# Altium schematic symbol library schlib.schlib: 33 symbols
Pins are listed as number, name and electrical type; pins without a type are passive.

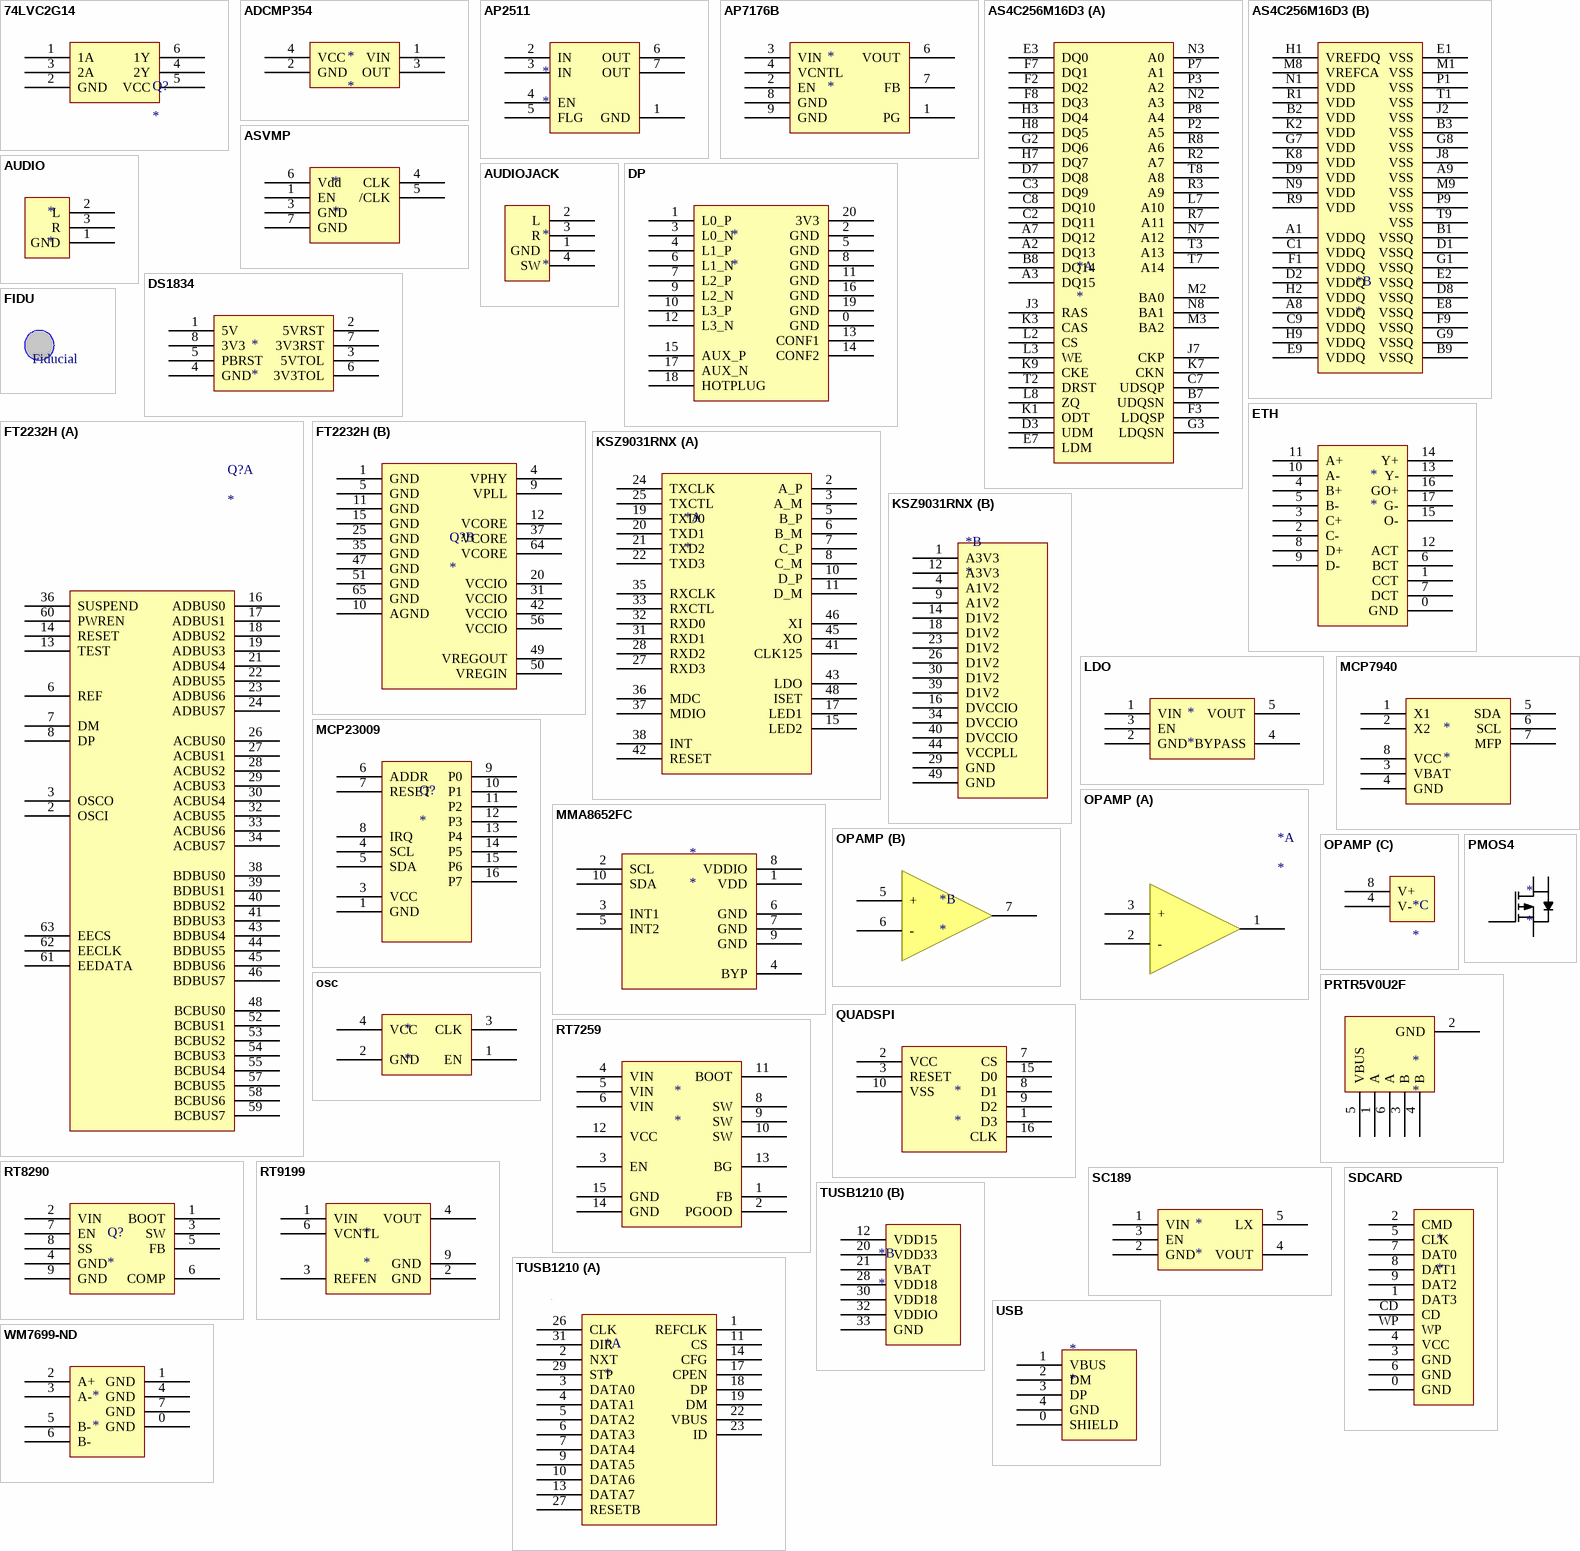
[diagram p0: symbols 74LVC2G14 to WM7699-ND]

## 74LVC2G14
designator Q?
footprint 74LVC2G14
pins: 1 1A, 2 GND, 3 2A, 4 2Y, 5 VCC, 6 1Y

## ADCMP354
designator *
footprint SC70-4 (SOT143, 4-Leads, Body 2.00x2.10mm, Pitch 1.30mm, IPC Medium Density)
pins: 1 VIN, 2 GND, 3 OUT, 4 VCC

## AP2511
designator *
footprint SOIC127P600X175-8AN (SOIC, 8-Leads, Body 4.9x3.9mm, Pitch 1.27mm, IPC Medium Density)
pins: 1 GND, 2 IN, 3 IN, 4 EN, 5 FLG, 6 OUT, 7 OUT

## AP7176B
designator *
footprint SOIC127P600X135_HS-9N (SOIC, 8-Leads, Body 4.90x3.91mm, Pitch 1.27mm, Thermal Pad 2.30.2x2.00.2mm, IPC Medium Density)
pins: 1 PG, 2 EN, 3 VIN, 4 VCNTL, 6 VOUT, 7 FB, 8 GND, 9 GND

## AS4C256M16D3
designator *
footprint DDR3
part A pins: A2 DQ13, A3 DQ15, A7 DQ12, B7 UDQSN, B8 DQ14, C2 DQ11, C3 DQ9, C7 UDSQP, C8 DQ10, D3 UDM, D7 DQ8, E3 DQ0, E7 LDM, F2 DQ2, F3 LDQSP, F7 DQ1, F8 DQ3, G2 DQ6, G3 LDQSN, H3 DQ4, H7 DQ7, H8 DQ5, J3 RAS, J7 CKP, K1 ODT, K3 CAS, K7 CKN, K9 CKE, L2 CS, L3 WE, L7 A10, L8 ZQ, M2 BA0, M3 BA2, N2 A3, N3 A0, N7 A12, N8 BA1, P2 A5, P3 A2, P7 A1, P8 A4, R2 A7, R3 A9, R7 A11, R8 A6, T2 DRST, T3 A13, T7 A14, T8 A8
part B pins: A1 VDDQ, A8 VDDQ, A9 VSS, B1 VSSQ, B2 VDD, B3 VSS, B9 VSSQ, C1 VDDQ, C9 VDDQ, D1 VSSQ, D2 VDDQ, D8 VSSQ, D9 VDD, E1 VSS, E2 VSSQ, E8 VSSQ, E9 VDDQ, F1 VDDQ, F9 VSSQ, G1 VSSQ, G7 VDD, G8 VSS, G9 VSSQ, H1 VREFDQ, H2 VDDQ, H9 VDDQ, J2 VSS, J8 VSS, K2 VDD, K8 VDD, M1 VSS, M8 VREFCA, M9 VSS, N1 VDD, N9 VDD, P1 VSS, P9 VSS, R1 VDD, R9 VDD, T1 VSS, T9 VSS

## ASVMP
designator *
footprint ASVMP
pins: 1 EN, 3 GND, 4 CLK, 5 /CLK, 6 Vdd, 7 GND

## AUDIO
designator *
footprint SJ1-3533NG
pins: 1 GND, 2 L, 3 R

## AUDIOJACK
designator *
footprint SJ-352X
pins: 1 GND, 2 L, 3 R, 4 SW

## DP
designator *
footprint TE 2040451-1
pins: 0 GND, 1 L0_P, 2 GND, 3 L0_N, 4 L1_P, 5 GND, 6 L1_N, 7 L2_P, 8 GND, 9 L2_N, 10 L3_P, 11 GND, 12 L3_N, 13 CONF1, 14 CONF2, 15 AUX_P, 16 GND, 17 AUX_N, 18 HOTPLUG, 19 GND, 20 3V3

## DS1834
designator *
pins: 1 5V, 2 5VRST, 3 5VTOL, 4 GND, 5 PBRST, 6 3V3TOL, 7 3V3RST, 8 3V3

## ETH
designator *
footprint ETH-L829-1J1T-43
pins: 0 GND, 1 CCT, 2 C-, 3 C+, 4 B+, 5 B-, 6 BCT, 7 DCT, 8 D+, 9 D-, 10 A-, 11 A+, 12 ACT, 13 Y-, 14 Y+, 15 O-, 16 GO+, 17 G-

## FIDU
designator *, comment Fiducial  (no BOM)
footprint FIDU

## FT2232H
designator Q?
footprint FT2232H
part A pins: 2 OSCI, 3 OSCO, 6 REF, 7 DM, 8 DP, 13 TEST, 14 RESET, 16 ADBUS0, 17 ADBUS1, 18 ADBUS2, 19 ADBUS3, 21 ADBUS4, 22 ADBUS5, 23 ADBUS6, 24 ADBUS7, 26 ACBUS0, 27 ACBUS1, 28 ACBUS2, 29 ACBUS3, 30 ACBUS4, 32 ACBUS5, 33 ACBUS6, 34 ACBUS7, 36 SUSPEND, 38 BDBUS0, 39 BDBUS1, 40 BDBUS2, 41 BDBUS3, 43 BDBUS4, 44 BDBUS5, 45 BDBUS6, 46 BDBUS7, 48 BCBUS0, 52 BCBUS1, 53 BCBUS2, 54 BCBUS3, 55 BCBUS4, 57 BCBUS5, 58 BCBUS6, 59 BCBUS7, 60 PWREN, 61 EEDATA, 62 EECLK, 63 EECS
part B pins: 1 GND, 4 VPHY, 5 GND, 9 VPLL, 10 AGND, 11 GND, 12 VCORE, 15 GND, 20 VCCIO, 25 GND, 31 VCCIO, 35 GND, 37 VCORE, 42 VCCIO, 47 GND, 49 VREGOUT, 50 VREGIN, 51 GND, 56 VCCIO, 64 VCORE, 65 GND

## KSZ9031RNX
designator *
part A pins: 2 A_P, 3 A_M, 5 B_P, 6 B_M, 7 C_P, 8 C_M, 10 D_P, 11 D_M, 15 LED2, 17 LED1, 19 TXD0, 20 TXD1, 21 TXD2, 22 TXD3, 24 TXCLK, 25 TXCTL, 27 RXD3, 28 RXD2, 31 RXD1, 32 RXD0, 33 RXCTL, 35 RXCLK, 36 MDC, 37 MDIO, 38 INT, 41 CLK125, 42 RESET, 43 LDO, 45 XO, 46 XI, 48 ISET
part B pins: 1 A3V3, 4 A1V2, 9 A1V2, 12 A3V3, 14 D1V2, 16 DVCCIO, 18 D1V2, 23 D1V2, 26 D1V2, 29 GND, 30 D1V2, 34 DVCCIO, 39 D1V2, 40 DVCCIO, 44 VCCPLL, 49 GND

## LDO
designator *
footprint SOT23-5
pins: 1 VIN, 2 GND, 3 EN, 4 BYPASS, 5 VOUT

## MCP7940
designator *
footprint SOIC127P600X175-8AN (SOIC, 8-Leads, Body 4.9x3.9mm, Pitch 1.27mm, IPC Medium Density)
pins: 1 X1, 2 X2, 3 VBAT, 4 GND, 5 SDA, 6 SCL, 7 MFP, 8 VCC

## MCP23009
designator Q?
footprint MCP23009 (QFN, 16-Leads, Body 3.00x3.00mm, Pitch 0.50mm, Thermal Pad 1.20x1.20mm, IPC Medium Density)
pins: 1 GND, 3 VCC, 4 SCL, 5 SDA, 6 ADDR, 7 RESET, 8 IRQ, 9 P0, 10 P1, 11 P2, 12 P3, 13 P4, 14 P5, 15 P6, 16 P7

## MMA8652FC
designator *
footprint MMA8653FC
pins: 1 VDD, 2 SCL, 3 INT1, 4 BYP, 5 INT2, 6 GND, 7 GND, 8 VDDIO, 9 GND, 10 SDA

## OPAMP
designator *
footprint SOIC127P600X175-8AN (SOIC, 8-Leads, Body 4.9x3.9mm, Pitch 1.27mm, IPC Medium Density)
part A pins: 1, 2 -, 3 +
part B pins: 5 +, 6 -, 7
part C pins: 4 V-, 8 V+

## osc
designator *
footprint KC3225A
pins: 1 EN, 2 GND, 3 CLK, 4 VCC

## PMOS4
designator *
pins: 1 G, 2 D, 3 S, 4 D

## PRTR5V0U2F
designator *
footprint SOT886
pins: 1 A, 2 GND, 3 B, 4 B, 5 VBUS, 6 A

## QUADSPI
designator *
footprint SOP127P1030X265-16N (SOP, 16-Leads, Body 10.30x7.50mm, Pitch 1.27mm, IPC Medium Density)
pins: 1 D3, 2 VCC, 3 RESET, 7 CS, 8 D1, 9 D2, 10 VSS, 15 D0, 16 CLK

## RT7259
designator *
footprint WFDN-14L 4x3 (QFN, 14-Leads, Body 4.00x3.00mm, Pitch 0.50mm, Thermal Pad 3.30x1.70mm, IPC Medium Density)
pins: 1 FB, 2 PGOOD, 3 EN, 4 VIN, 5 VIN, 6 VIN, 8 SW, 9 SW, 10 SW, 11 BOOT, 12 VCC, 13 BG, 14 GND, 15 GND

## RT8290
designator Q?
footprint SOIC127P600X135_HS-9N (SOIC, 8-Leads, Body 4.90x3.91mm, Pitch 1.27mm, Thermal Pad 2.30.2x2.00.2mm, IPC Medium Density)
pins: 1 BOOT, 2 VIN, 3 SW, 4 GND, 5 FB, 6 COMP, 7 EN, 8 SS, 9 GND

## RT9199
designator *
footprint SOIC127P600X135_HS-9N (SOIC, 8-Leads, Body 4.90x3.91mm, Pitch 1.27mm, Thermal Pad 2.30.2x2.00.2mm, IPC Medium Density)
pins: 1 VIN, 2 GND, 3 REFEN, 4 VOUT, 6 VCNTL, 9 GND

## SC189
designator *
footprint SOT23-5
pins: 1 VIN, 2 GND, 3 EN, 4 VOUT, 5 LX

## SDCARD
designator *
footprint SD-10067847
pins: 0 GND, 1 DAT3, 2 CMD, 3 GND, 4 VCC, 5 CLK, 6 GND, 7 DAT0, 8 DAT1, 9 DAT2, CD, WP

## TUSB1210
designator *
footprint QFN50P500X500X80_HS-33N (QFN, 32-Leads, Body 5.00x5.00mm, Pitch 0.50mm, Thermal Pad 3.45x3.45mm, IPC Medium Density)
part A pins: 1 REFCLK, 2 NXT, 3 DATA0, 4 DATA1, 5 DATA2, 6 DATA3, 7 DATA4, 9 DATA5, 10 DATA6, 11 CS, 13 DATA7, 14 CFG, 17 CPEN, 18 DP, 19 DM, 22 VBUS, 23 ID, 26 CLK, 27 RESETB, 29 STP, 31 DIR
part B pins: 12 VDD15, 20 VDD33, 21 VBAT, 28 VDD18, 30 VDD18, 32 VDDIO, 33 GND

## USB
designator *
pins: 0 SHIELD, 1 VBUS, 2 DM, 3 DP, 4 GND

## WM7699-ND
designator *
footprint WM7699-ND
pins: 0 GND, 1 GND, 2 A+, 3 A-, 4 GND, 5 B-, 6 B-, 7 GND

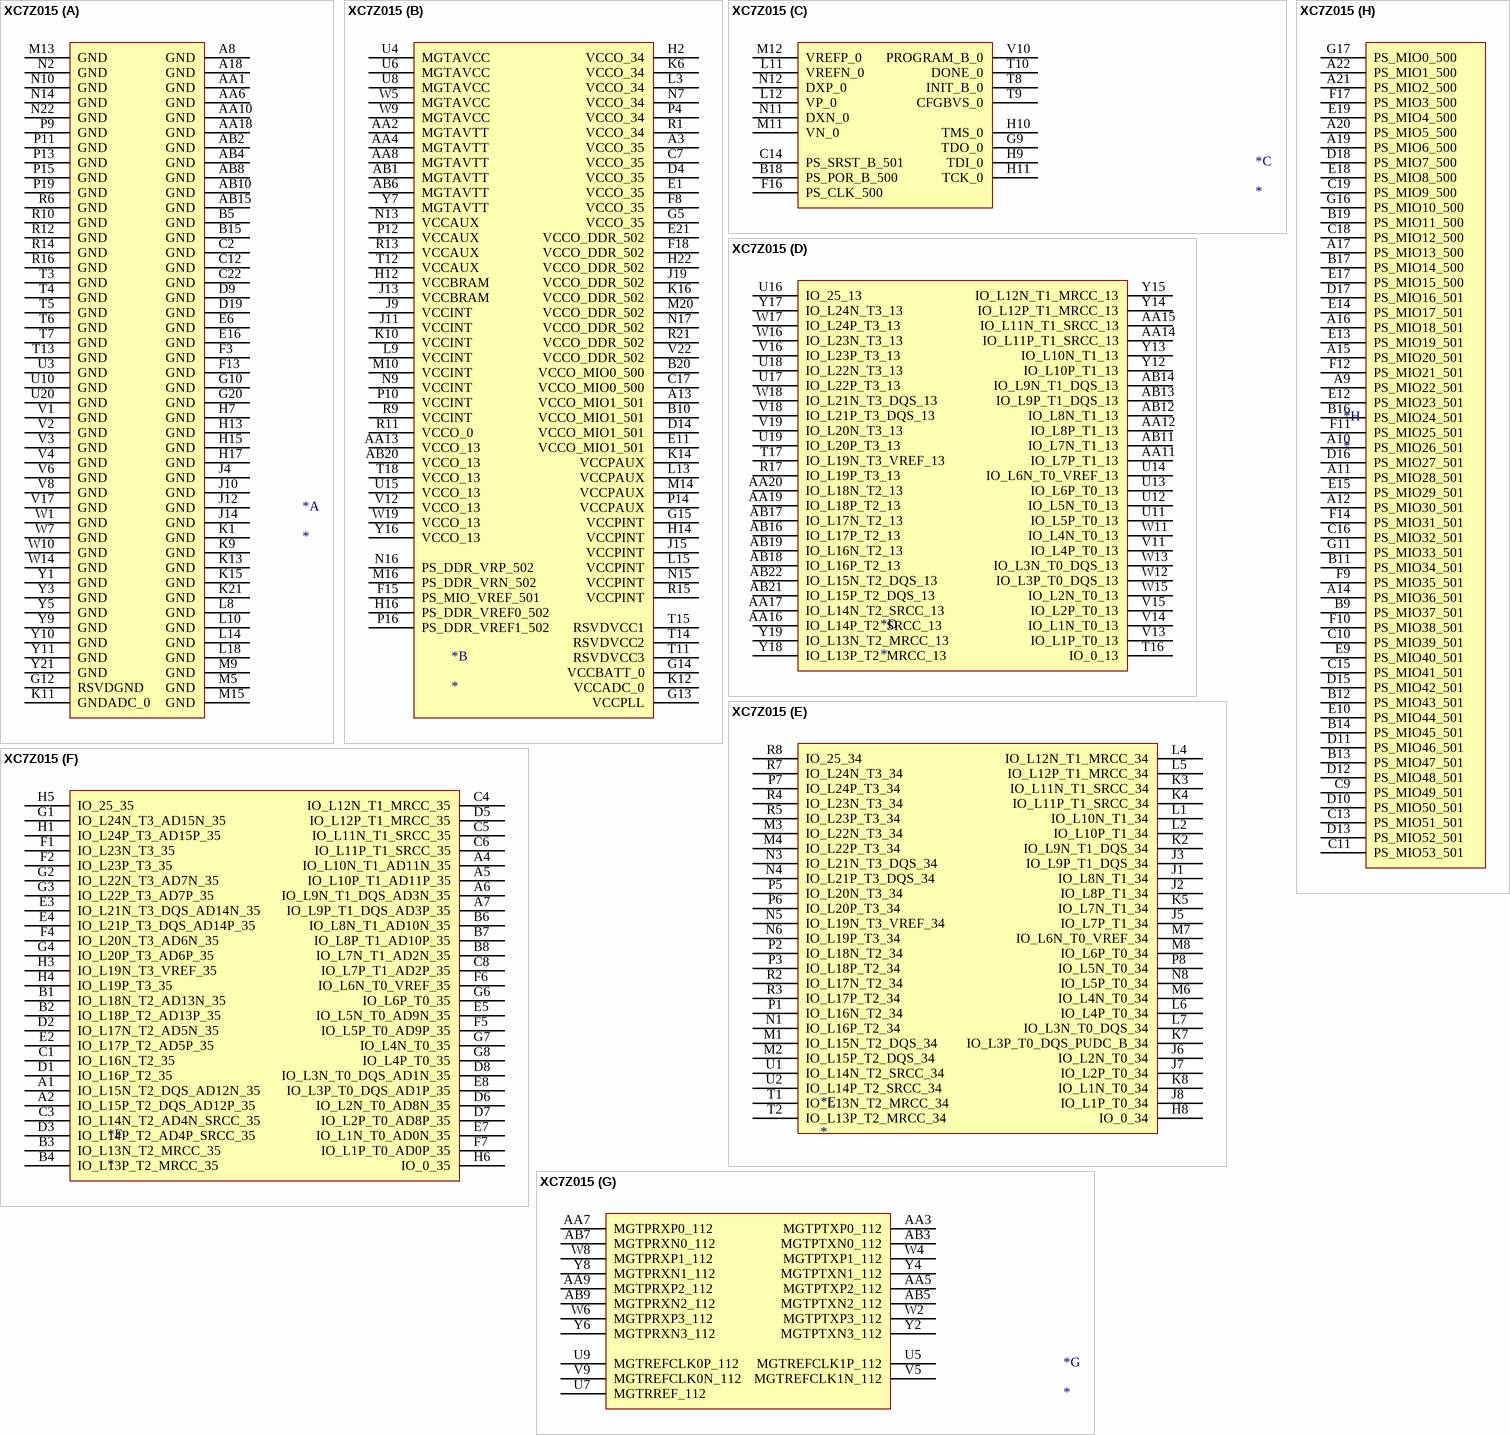
[diagram p1: symbol XC7Z015]

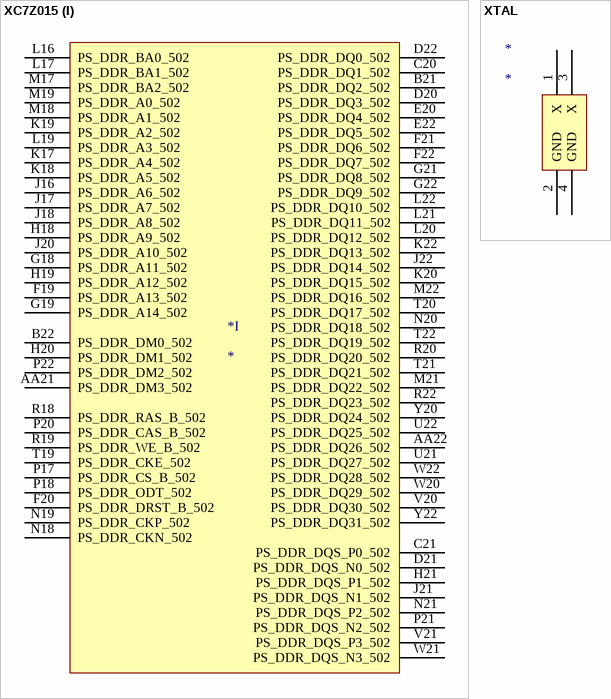
[diagram p2: symbols XC7Z015 to XTAL]

## XC7Z015
designator *
footprint BGA484x22
part A pins: A8 GND, A18 GND, AA1 GND, AA6 GND, AA10 GND, AA18 GND, AB2 GND, AB4 GND, AB8 GND, AB10 GND, AB15 GND, B5 GND, B15 GND, C2 GND, C12 GND, C22 GND, D9 GND, D19 GND, E6 GND, E16 GND, F3 GND, F13 GND, G10 GND, G12 RSVDGND, G20 GND, H7 GND, H13 GND, H15 GND, H17 GND, J4 GND, J10 GND, J12 GND, J14 GND, K1 GND, K9 GND, K11 GNDADC_0, K13 GND, K15 GND, K21 GND, L8 GND, L10 GND, L14 GND, L18 GND, M5 GND, M9 GND, M13 GND, M15 GND, N2 GND, N10 GND, N14 GND, N22 GND, P9 GND, P11 GND, P13 GND, P15 GND, P19 GND, R6 GND, R10 GND, R12 GND, R14 GND, R16 GND, T3 GND, T4 GND, T5 GND, T6 GND, T7 GND, T13 GND, U3 GND, U10 GND, U20 GND, V1 GND, V2 GND, V3 GND, V4 GND, V6 GND, V8 GND, V17 GND, W1 GND, W7 GND, W10 GND, W14 GND, Y1 GND, Y3 GND, Y5 GND, Y9 GND, Y10 GND, Y11 GND, Y21 GND
part B pins: A3 VCCO_35, A13 VCCO_MIO1_501, AA2 MGTAVTT, AA4 MGTAVTT, AA8 MGTAVTT, AA13 VCCO_13, AB1 MGTAVTT, AB6 MGTAVTT, AB20 VCCO_13, B10 VCCO_MIO1_501, B20 VCCO_MIO0_500, C7 VCCO_35, C17 VCCO_MIO0_500, D4 VCCO_35, D14 VCCO_MIO1_501, E1 VCCO_35, E11 VCCO_MIO1_501, E21 VCCO_DDR_502, F8 VCCO_35, F15 PS_MIO_VREF_501, F18 VCCO_DDR_502, G5 VCCO_35, G13 VCCPLL, G14 VCCBATT_0, G15 VCCPINT, H2 VCCO_34, H12 VCCBRAM, H14 VCCPINT, H16 PS_DDR_VREF0_502, H22 VCCO_DDR_502, J9 VCCINT, J11 VCCINT, J13 VCCBRAM, J15 VCCPINT, J19 VCCO_DDR_502, K6 VCCO_34, K10 VCCINT, K12 VCCADC_0, K14 VCCPAUX, K16 VCCO_DDR_502, L3 VCCO_34, L9 VCCINT, L13 VCCPAUX, L15 VCCPINT, M10 VCCINT, M14 VCCPAUX, M16 PS_DDR_VRN_502, M20 VCCO_DDR_502, N7 VCCO_34, N9 VCCINT, N13 VCCAUX, N15 VCCPINT, N16 PS_DDR_VRP_502, N17 VCCO_DDR_502, P4 VCCO_34, P10 VCCINT, P12 VCCAUX, P14 VCCPAUX, P16 PS_DDR_VREF1_502, R1 VCCO_34, R9 VCCINT, R11 VCCO_0, R13 VCCAUX, R15 VCCPINT, R21 VCCO_DDR_502, T11 RSVDVCC3, T12 VCCAUX, T14 RSVDVCC2, T15 RSVDVCC1, T18 VCCO_13, U4 MGTAVCC, U6 MGTAVCC, U8 MGTAVCC, U15 VCCO_13, V12 VCCO_13, V22 VCCO_DDR_502, W5 MGTAVCC, W9 MGTAVCC, W19 VCCO_13, Y7 MGTAVTT, Y16 VCCO_13
part C pins: B18 PS_POR_B_500, C14 PS_SRST_B_501, F16 PS_CLK_500, G9 TDO_0, H9 TDI_0, H10 TMS_0, H11 TCK_0, L11 VREFN_0, L12 VP_0, M11 VN_0, M12 VREFP_0, N11 DXN_0, N12 DXP_0, T8 INIT_B_0, T9 CFGBVS_0, T10 DONE_0, V10 PROGRAM_B_0
part D pins: AA11 IO_L7P_T1_13, AA12 IO_L8P_T1_13, AA14 IO_L11P_T1_SRCC_13, AA15 IO_L11N_T1_SRCC_13, AA16 IO_L14P_T2_SRCC_13, AA17 IO_L14N_T2_SRCC_13, AA19 IO_L18P_T2_13, AA20 IO_L18N_T2_13, AB11 IO_L7N_T1_13, AB12 IO_L8N_T1_13, AB13 IO_L9P_T1_DQS_13, AB14 IO_L9N_T1_DQS_13, AB16 IO_L17P_T2_13, AB17 IO_L17N_T2_13, AB18 IO_L16P_T2_13, AB19 IO_L16N_T2_13, AB21 IO_L15P_T2_DQS_13, AB22 IO_L15N_T2_DQS_13, R17 IO_L19P_T3_13, T16 IO_0_13, T17 IO_L19N_T3_VREF_13, U11 IO_L5P_T0_13, U12 IO_L5N_T0_13, U13 IO_L6P_T0_13, U14 IO_L6N_T0_VREF_13, U16 IO_25_13, U17 IO_L22P_T3_13, U18 IO_L22N_T3_13, U19 IO_L20P_T3_13, V11 IO_L4P_T0_13, V13 IO_L1P_T0_13, V14 IO_L1N_T0_13, V15 IO_L2P_T0_13, V16 IO_L23P_T3_13, V18 IO_L21P_T3_DQS_13, V19 IO_L20N_T3_13, W11 IO_L4N_T0_13, W12 IO_L3P_T0_DQS_13, W13 IO_L3N_T0_DQS_13, W15 IO_L2N_T0_13, W16 IO_L23N_T3_13, W17 IO_L24P_T3_13, W18 IO_L21N_T3_DQS_13, Y12 IO_L10P_T1_13, Y13 IO_L10N_T1_13, Y14 IO_L12P_T1_MRCC_13, Y15 IO_L12N_T1_MRCC_13, Y17 IO_L24N_T3_13, Y18 IO_L13P_T2_MRCC_13, Y19 IO_L13N_T2_MRCC_13
part E pins: H8 IO_0_34, J1 IO_L8N_T1_34, J2 IO_L8P_T1_34, J3 IO_L9P_T1_DQS_34, J5 IO_L7P_T1_34, J6 IO_L2N_T0_34, J7 IO_L2P_T0_34, J8 IO_L1P_T0_34, K2 IO_L9N_T1_DQS_34, K3 IO_L11N_T1_SRCC_34, K4 IO_L11P_T1_SRCC_34, K5 IO_L7N_T1_34, K7 IO_L3P_T0_DQS_PUDC_B_34, K8 IO_L1N_T0_34, L1 IO_L10N_T1_34, L2 IO_L10P_T1_34, L4 IO_L12N_T1_MRCC_34, L5 IO_L12P_T1_MRCC_34, L6 IO_L4P_T0_34, L7 IO_L3N_T0_DQS_34, M1 IO_L15N_T2_DQS_34, M2 IO_L15P_T2_DQS_34, M3 IO_L22N_T3_34, M4 IO_L22P_T3_34, M6 IO_L4N_T0_34, M7 IO_L6N_T0_VREF_34, M8 IO_L6P_T0_34, N1 IO_L16P_T2_34, N3 IO_L21N_T3_DQS_34, N4 IO_L21P_T3_DQS_34, N5 IO_L19N_T3_VREF_34, N6 IO_L19P_T3_34, N8 IO_L5P_T0_34, P1 IO_L16N_T2_34, P2 IO_L18N_T2_34, P3 IO_L18P_T2_34, P5 IO_L20N_T3_34, P6 IO_L20P_T3_34, P7 IO_L24P_T3_34, P8 IO_L5N_T0_34, R2 IO_L17N_T2_34, R3 IO_L17P_T2_34, R4 IO_L23N_T3_34, R5 IO_L23P_T3_34, R7 IO_L24N_T3_34, R8 IO_25_34, T1 IO_L13N_T2_MRCC_34, T2 IO_L13P_T2_MRCC_34, U1 IO_L14N_T2_SRCC_34, U2 IO_L14P_T2_SRCC_34
part F pins: A1 IO_L15N_T2_DQS_AD12N_35, A2 IO_L15P_T2_DQS_AD12P_35, A4 IO_L10N_T1_AD11N_35, A5 IO_L10P_T1_AD11P_35, A6 IO_L9N_T1_DQS_AD3N_35, A7 IO_L9P_T1_DQS_AD3P_35, B1 IO_L18N_T2_AD13N_35, B2 IO_L18P_T2_AD13P_35, B3 IO_L13N_T2_MRCC_35, B4 IO_L13P_T2_MRCC_35, B6 IO_L8N_T1_AD10N_35, B7 IO_L8P_T1_AD10P_35, B8 IO_L7N_T1_AD2N_35, C1 IO_L16N_T2_35, C3 IO_L14N_T2_AD4N_SRCC_35, C4 IO_L12N_T1_MRCC_35, C5 IO_L11N_T1_SRCC_35, C6 IO_L11P_T1_SRCC_35, C8 IO_L7P_T1_AD2P_35, D1 IO_L16P_T2_35, D2 IO_L17N_T2_AD5N_35, D3 IO_L14P_T2_AD4P_SRCC_35, D5 IO_L12P_T1_MRCC_35, D6 IO_L2N_T0_AD8N_35, D7 IO_L2P_T0_AD8P_35, D8 IO_L3N_T0_DQS_AD1N_35, E2 IO_L17P_T2_AD5P_35, E3 IO_L21N_T3_DQS_AD14N_35, E4 IO_L21P_T3_DQS_AD14P_35, E5 IO_L5N_T0_AD9N_35, E7 IO_L1N_T0_AD0N_35, E8 IO_L3P_T0_DQS_AD1P_35, F1 IO_L23N_T3_35, F2 IO_L23P_T3_35, F4 IO_L20N_T3_AD6N_35, F5 IO_L5P_T0_AD9P_35, F6 IO_L6N_T0_VREF_35, F7 IO_L1P_T0_AD0P_35, G1 IO_L24N_T3_AD15N_35, G2 IO_L22N_T3_AD7N_35, G3 IO_L22P_T3_AD7P_35, G4 IO_L20P_T3_AD6P_35, G6 IO_L6P_T0_35, G7 IO_L4N_T0_35, G8 IO_L4P_T0_35, H1 IO_L24P_T3_AD15P_35, H3 IO_L19N_T3_VREF_35, H4 IO_L19P_T3_35, H5 IO_25_35, H6 IO_0_35
part G pins: AA3 MGTPTXP0_112, AA5 MGTPTXP2_112, AA7 MGTPRXP0_112, AA9 MGTPRXP2_112, AB3 MGTPTXN0_112, AB5 MGTPTXN2_112, AB7 MGTPRXN0_112, AB9 MGTPRXN2_112, U5 MGTREFCLK1P_112, U7 MGTRREF_112, U9 MGTREFCLK0P_112, V5 MGTREFCLK1N_112, V9 MGTREFCLK0N_112, W2 MGTPTXP3_112, W4 MGTPTXP1_112, W6 MGTPRXP3_112, W8 MGTPRXP1_112, Y2 MGTPTXN3_112, Y4 MGTPTXN1_112, Y6 MGTPRXN3_112, Y8 MGTPRXN1_112
part H pins: A9 PS_MIO22_501, A10 PS_MIO26_501, A11 PS_MIO28_501, A12 PS_MIO30_501, A14 PS_MIO36_501, A15 PS_MIO20_501, A16 PS_MIO18_501, A17 PS_MIO13_500, A19 PS_MIO6_500, A20 PS_MIO5_500, A21 PS_MIO2_500, A22 PS_MIO1_500, B9 PS_MIO37_501, B11 PS_MIO34_501, B12 PS_MIO43_501, B13 PS_MIO47_501, B14 PS_MIO45_501, B16 PS_MIO24_501, B17 PS_MIO14_500, B19 PS_MIO11_500, C9 PS_MIO49_501, C10 PS_MIO39_501, C11 PS_MIO53_501, C13 PS_MIO51_501, C15 PS_MIO41_501, C16 PS_MIO32_501, C18 PS_MIO12_500, C19 PS_MIO9_500, D10 PS_MIO50_501, D11 PS_MIO46_501, D12 PS_MIO48_501, D13 PS_MIO52_501, D15 PS_MIO42_501, D16 PS_MIO27_501, D17 PS_MIO16_501, D18 PS_MIO7_500, E9 PS_MIO40_501, E10 PS_MIO44_501, E12 PS_MIO23_501, E13 PS_MIO19_501, E14 PS_MIO17_501, E15 PS_MIO29_501, E17 PS_MIO15_500, E18 PS_MIO8_500, E19 PS_MIO4_500, F9 PS_MIO35_501, F10 PS_MIO38_501, F11 PS_MIO25_501, F12 PS_MIO21_501, F14 PS_MIO31_501, F17 PS_MIO3_500, G11 PS_MIO33_501, G16 PS_MIO10_500, G17 PS_MIO0_500
part I pins: AA21 PS_DDR_DM3_502, AA22 PS_DDR_DQ26_502, B21 PS_DDR_DQ2_502, B22 PS_DDR_DM0_502, C20 PS_DDR_DQ1_502, C21 PS_DDR_DQS_P0_502, D20 PS_DDR_DQ3_502, D21 PS_DDR_DQS_N0_502, D22 PS_DDR_DQ0_502, E20 PS_DDR_DQ4_502, E22 PS_DDR_DQ5_502, F19 PS_DDR_A13_502, F20 PS_DDR_DRST_B_502, F21 PS_DDR_DQ6_502, F22 PS_DDR_DQ7_502, G18 PS_DDR_A11_502, G19 PS_DDR_A14_502, G21 PS_DDR_DQ8_502, G22 PS_DDR_DQ9_502, H18 PS_DDR_A9_502, H19 PS_DDR_A12_502, H20 PS_DDR_DM1_502, H21 PS_DDR_DQS_P1_502, J16 PS_DDR_A6_502, J17 PS_DDR_A7_502, J18 PS_DDR_A8_502, J20 PS_DDR_A10_502, J21 PS_DDR_DQS_N1_502, J22 PS_DDR_DQ14_502, K17 PS_DDR_A4_502, K18 PS_DDR_A5_502, K19 PS_DDR_A2_502, K20 PS_DDR_DQ15_502, K22 PS_DDR_DQ13_502, L16 PS_DDR_BA0_502, L17 PS_DDR_BA1_502, L19 PS_DDR_A3_502, L20 PS_DDR_DQ12_502, L21 PS_DDR_DQ11_502, L22 PS_DDR_DQ10_502, M17 PS_DDR_BA2_502, M18 PS_DDR_A1_502, M19 PS_DDR_A0_502, M21 PS_DDR_DQ22_502, M22 PS_DDR_DQ16_502, N18 PS_DDR_CKN_502, N19 PS_DDR_CKP_502, N20 PS_DDR_DQ18_502, N21 PS_DDR_DQS_P2_502, P17 PS_DDR_CS_B_502, P18 PS_DDR_ODT_502, P20 PS_DDR_CAS_B_502, P21 PS_DDR_DQS_N2_502, P22 PS_DDR_DM2_502, R18 PS_DDR_RAS_B_502, R19 PS_DDR_WE_B_502, R20 PS_DDR_DQ20_502, R22 PS_DDR_DQ23_502, T19 PS_DDR_CKE_502, T20 PS_DDR_DQ17_502, T21 PS_DDR_DQ21_502, T22 PS_DDR_DQ19_502, U21 PS_DDR_DQ27_502, U22 PS_DDR_DQ25_502, V20 PS_DDR_DQ30_502, V21 PS_DDR_DQS_P3_502, W20 PS_DDR_DQ29_502, W21 PS_DDR_DQS_N3_502, W22 PS_DDR_DQ28_502, Y20 PS_DDR_DQ24_502, Y22 PS_DDR_DQ31_502

## XTAL
designator *
footprint XTAL
pins: 1 X, 2 GND, 3 X, 4 GND